# Altium footprint library 28Pins_Project_V111.PcbLib: 28 footprints (part 1 of 2)
Each footprint in its own frame and in the unit in brackets; x right, y up, seen from the top. Pads: shape width x height; smd on the part's side, far side on the other; paste and mask are expansions set on the pad; w line width, h text height; cw(c..) or ccw(c..) is an arc to the next point about the centre after c.
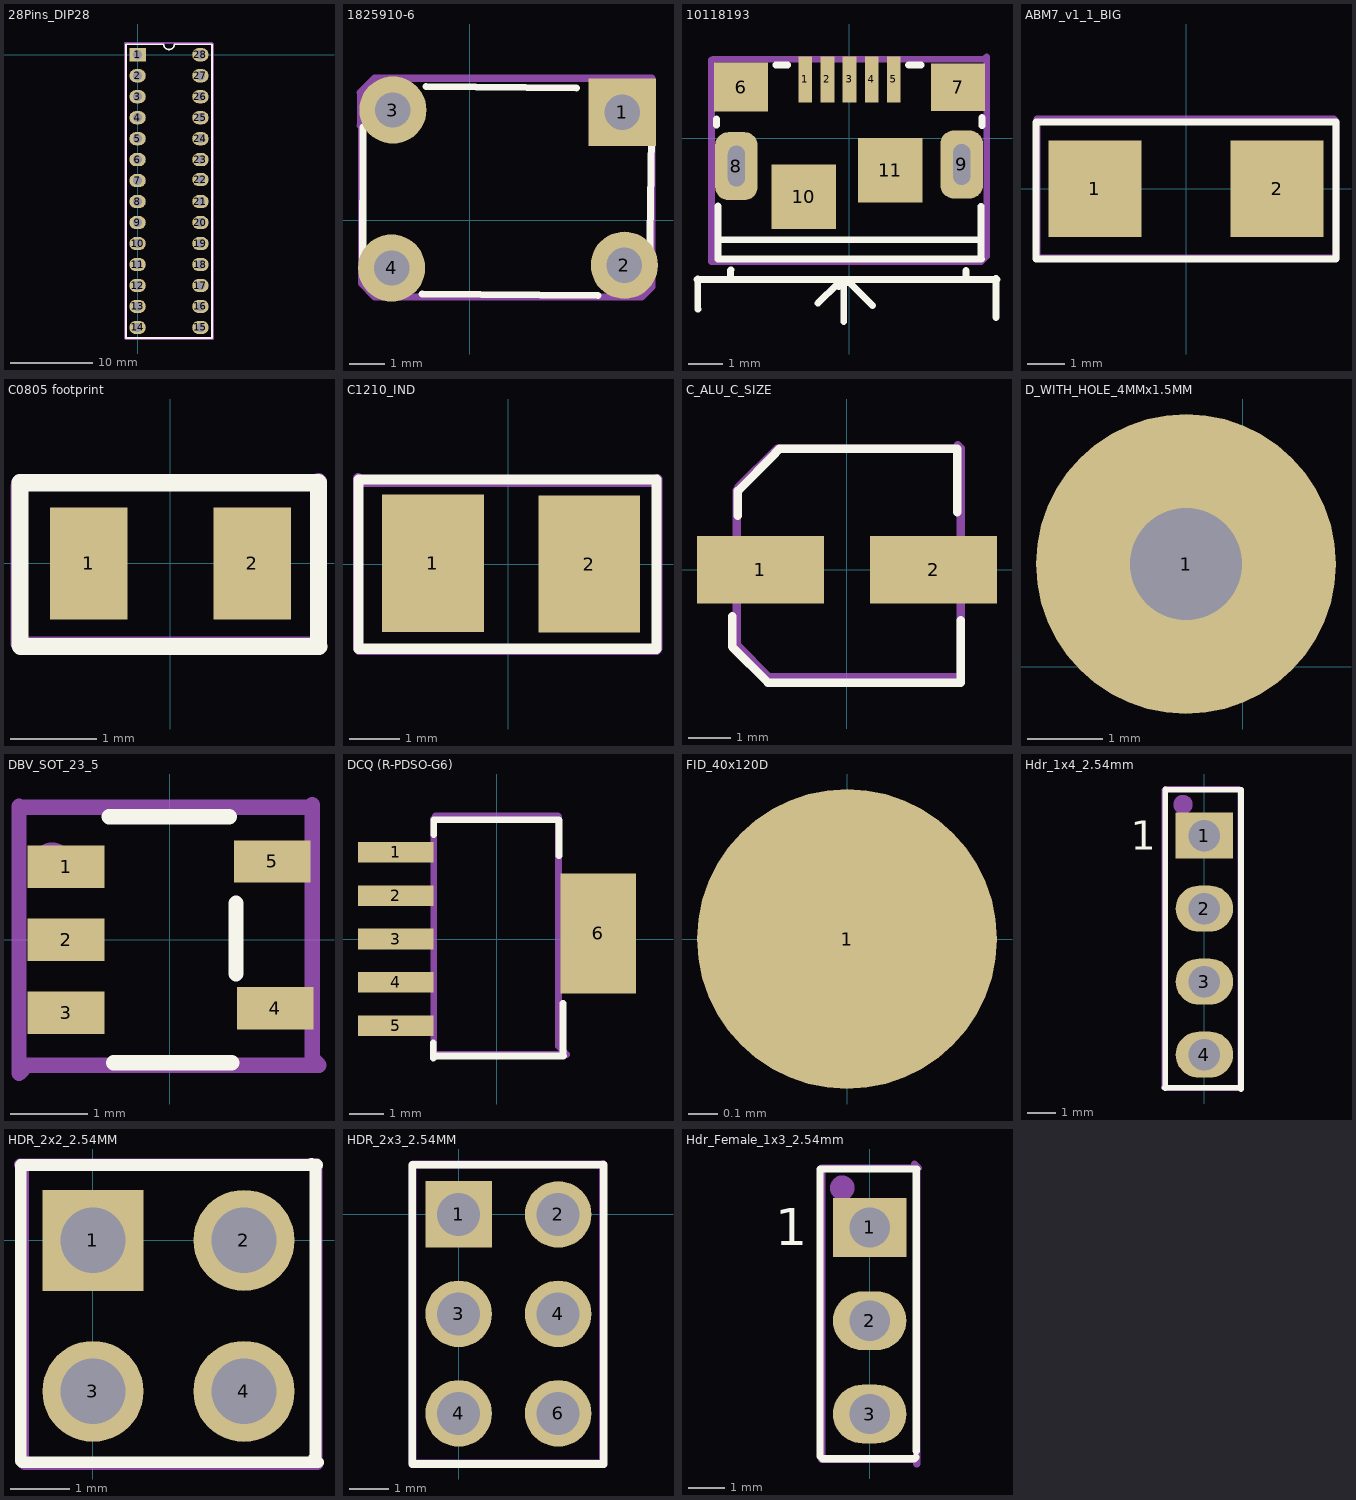
[diagram p0: the footprints below, top view; thin cyan lines are the x and y axes]

## 28_DIP_7.62mm_SOCKET [mm]
3D body "dil_socket.stp": height 4.2, standoff -3.17, extent -0.06,-35.419 10.04,0.081

## 28Pins_DIP28 [mm]
pads (28):
  rect 2x1.6 hole 1.1: 1(0,0)
  oval 2x1.6 hole 1.1: 2(0,-2.54) 3(0,-5.08) 4(0,-7.62) 5(0,-10.16) 6(0,-12.7) 7(0,-15.24) 8(0,-17.78) 9(0,-20.32) 10(0,-22.86) 11(0,-25.4) 12(0,-27.94) 13(0,-30.48) 14(0,-33.02) 15(7.62,-33.02) 16(7.62,-30.48) 17(7.62,-27.94) 18(7.62,-25.4) 19(7.62,-22.86) 20(7.62,-20.32) 21(7.62,-17.78) 22(7.62,-15.113) 23(7.62,-12.7) 24(7.62,-10.16) 25(7.62,-7.62) 26(7.62,-5.08) 27(7.62,-2.54) 28(7.62,0)
Top Overlay:
  lines w0.2: -1.397,-34.29 -1.397,1.27 3.175,1.27 ccw(c3.81,1.27) 4.445,1.27 9.017,1.27 9.017,-34.29 -1.397,-34.29
Mechanical 29:
  circle w0.5: c0,0 r0.359
  lines w0.254: -1.524,-34.29 -1.524,1.397 4.572,1.397 9.017,1.397 9.144,1.27 9.144,0.508 9.144,-3.683 9.144,-21.209 9.144,-34.417 -1.397,-34.417 -1.524,-34.29
  text ".Designator" at 4.699,-17.78 h1.52
3D body "User Library-28 pin dip-2.step": height 7.55, standoff 1.33, extent -0.127,-34.735 7.747,1.207

## 1825910-6 [mm]
pads (4):
  rect 1.9x1.9 hole 1: 1(4.311,3.047)
  round 1.9 hole 1: 2(4.37,-1.276) 3(-2.173,3.111) 4(-2.21,-1.352)
Top Overlay:
  lines w0.2: -3.025,-1.471 -3.018,2.628 ; -1.343,-2.088 3.628,-2.137 ; -1.237,3.781 3.013,3.738 ; 5.076,-1.437 5.137,2.39
Mechanical 29:
  lines w0.2: -3.095,2.67 -3.088,2.678 -3.088,3.581 ; -3.095,3.603 -2.688,4.01 5.147,4.01 ; -3.065,2.753 -3.065,-1.793 -2.689,-2.17 4.861,-2.17 5.147,-1.884 5.147,4.01 ; 5.147,4.01 5.147,4.01
3D body "User Library-FSM4JLH(1825910-5).step": height 5, standoff -3.51, extent -2.78,-2.144 5.019,3.846

## 10118193 [mm]
pads (11):
  rect 0.4x1.35 smd: 1(-1.287,1.731) 2(-0.637,1.731) 3(0.013,1.731) 4(0.663,1.731) 5(1.313,1.731)
  rect 1.6x1.45 smd: 6(-3.187,1.506)
  rect 1.6x1.4 smd: 7(3.213,1.506)
  rrect60% 1.25x2 hole 0.5 slot 1.2 at 90 deg: 8(-3.322,-0.823) 9(3.322,-0.777)
  rect 1.9x1.9 smd: 10(-1.341,-1.731) 11(1.213,-0.944)
Top Overlay:
  lines w0.2: -4.485,-4.171 4.363,-4.171 4.35,-4.184 ; -4.466,-4.152 -4.466,-5.038 -4.46,-5.044 ; -3.909,0.382 -3.909,0.564 ; -3.864,-2.003 -3.864,-3.573 -3.854,-3.564 3.906,-3.564 3.859,-3.517 ; -3.767,-2.993 3.835,-2.993 3.829,-3 ; -3.498,-4.063 -3.498,-3.899 -3.479,-3.88 ; -2.164,2.158 -1.808,2.158 ; -0.916,-4.867 -0.346,-4.298 -0.314,-4.298 ; -0.302,-4.374 -0.302,-4.298 ; -0.156,-5.405 -0.156,-4.272 ; -0.124,-4.266 0.021,-4.266 0.692,-4.937 ; 1.752,2.158 2.128,2.158 ; 3.445,-4.12 3.445,-3.905 ; 3.892,-3.48 3.892,-2.007 ; 3.919,0.367 3.919,0.609 ; 4.337,-5.291 4.337,-4.133
Mechanical 29:
  lines w0.2: -4.055,2.303 -4.055,-3.646 ; -3.998,2.329 3.989,2.329 4.059,2.398 4.059,-3.481 3.894,-3.646 -4.055,-3.646 ; -4.055,-3.646 -4.055,-3.646
  text ".Des" at -1.244,-0.816 h1.52
3D body "10118193-0001lfc.stp": height 2.88, standoff -0.92, extent -3.916,-3.613 3.941,2.17

## ABM7_v1_1_BIG [mm]
pads (2):
  rect 2.5x2.6 smd: 1(-2.45,0) 2(2.45,0)
Top Overlay:
  lines w0.2: -4.035,-1.89 -4.035,1.794 4.034,1.794 4.034,-1.89 -4.035,-1.89
Mechanical 1:
  lines w0.2: -4.017,1.776 -4.017,-1.854 -4.008,-1.863 4.025,-1.863 4.034,-1.854 4.034,1.812 3.971,1.875 -4.008,1.875
  text ".Designator" at -6.854,-1.149 h1.52
3D body "ABM7.STEP": height 1.41, standoff 0.01, extent -2.992,-1.783 3.002,1.722

## C0805 footprint [mm]
pads (2):
  rect 0.9x1.3 smd: 1(-0.95,0) 2(0.95,0)
Top Overlay:
  lines w0.2: -1.749,-0.95 -1.749,0.937 1.724,0.937 1.724,-0.95 ; -1.744,-0.965 1.729,-0.965
Mechanical 29:
  lines w0.2: -1.762,0.895 -1.762,-0.932 -1.745,-0.95 1.703,-0.95 1.722,-0.93 1.722,0.951 1.711,0.94 -1.749,0.94
  text ".Designator" at -1.243,-0.033 h0.25
3D body "CAPC2012X145N EIA 0805.step": height 1.21, standoff 0.01, extent -0.951,-0.724 1.049,0.726

## C1210_IND [mm]
pads (2):
  rect 2x2.7 smd: 1(-1.479,0.017) 2(1.6,0)
Top Overlay:
  lines w0.2: -2.948,-1.664 2.923,-1.664 2.923,1.666 -2.948,1.666 -2.948,-1.664
Mechanical 29:
  lines w0.2: -2.955,1.691 -2.955,-1.662 -2.933,-1.685 2.922,-1.685 2.943,-1.663 2.943,1.675 2.885,1.617 -2.897,1.617
  text ".Des" at -1.064,-0.233 h1.52
3D body: height 2.7, standoff -0.01, extent -2.095,-1.021 -1.347,0.915
3D body: height 2.7, standoff -0.01, extent 1.257,-1.008 2.005,0.929
3D body: height 2.7, standoff -0.01, extent -2.107,-1.04 2.03,0.922

## C_ALU_C_SIZE [mm]
pads (2):
  rect 3x1.6 smd: 1(-2.05,0) 2(2.05,0)
Top Overlay:
  lines w0.2: -2.716,-1.102 -2.716,-1.826 -1.87,-2.672 2.687,-2.672 2.687,-1.201 ; -2.58,1.272 -2.58,1.865 -1.702,2.743 -1.716,2.743 -1.602,2.857 2.611,2.857 2.611,1.354
Mechanical 29:
  lines w0.2: -2.607,1.881 -2.607,-1.786 -1.843,-2.55 2.684,-2.55 2.69,-2.544 2.69,2.87 2.62,2.94 ; -2.576,1.846 -2.576,1.939 -1.656,2.86 2.616,2.86
  text ".Des" at -0.274,-0.248 h1.52
3D body "User Library-capacitor size C.step": height 5.41, standoff -0.01, extent -3.018,-2.567 2.882,2.732

## D_WITH_HOLE_4MMx1.5MM [mm]
pads (1):
  round 4 hole 1.5: 1(-0.758,1.369)

## DBV_SOT_23_5 [mm]
pads (5):
  rect 1x0.55 smd: 1(-1.35,0.95) 2(-1.35,0) 3(-1.35,-0.95) 4(1.373,-0.889) 5(1.334,1.021)
Top Overlay:
  lines w0.2: -0.793,1.6 0.771,1.6 ; -0.734,-1.599 0.805,-1.599 ; 0.861,-0.444 0.861,0.476
Mechanical 29:
  circle w0.5: c-1.533,0.973 r0.042
  lines w0.2: -1.964,1.741 -1.964,-1.738 -1.859,-1.632 1.942,-1.632 1.855,-1.545 1.855,1.759 1.821,1.725 -1.948,1.725
3D body "User Library-TPS79333DBVR.step": height 1.46, standoff -0.16, extent -1.504,-1.473 1.523,1.577

## DCQ (R-PDSO-G6) [mm]
pads (6):
  rect 2.2x0.6 smd: 1(-2.96,2.54) 2(-2.96,1.27) 3(-2.96,0) 4(-2.96,-1.27) 5(-2.96,-2.54)
  rect 2.2x3.5 smd: 6(2.956,0.164)
Top Overlay:
  lines w0.2: -1.861,-3.036 -1.861,-3.477 -1.806,-3.422 1.947,-3.422 1.931,-3.407 1.931,-1.877 ; -1.845,3.057 -1.845,3.483 ; 1.813,2.434 1.813,3.475 ; 1.813,3.436 1.765,3.483 -1.845,3.483 ; -1.845,3.483 -1.845,3.483
Mechanical 29:
  lines w0.2: -1.848,3.528 -1.848,-3.393 -1.833,-3.377 2.038,-3.377 1.793,-3.132 1.793,3.583 1.785,3.591 -1.793,3.591
  text ".Des" at -0.995,-2.122 h1.52
3D body "User Library-TPS73701DCQ.step": height 1.79, standoff -0.01, extent -3.757,-3.275 3.503,3.275

## FID_40x120D [mil]
pads (1):
  round 40 smd paste-40 mask+40: 1(0,0)

## Hdr_1x4_2.54mm [mm]
pads (4):
  rect 2x1.6 hole 1.1: 1(0,12.7)
  oval 2x1.6 hole 1.1: 2(0,10.16) 3(0,7.62) 4(0,5.08)
Top Overlay:
  lines w0.2: -1.387,3.929 1.177,3.929 ; -1.364,3.923 -1.364,14.308 ; -1.315,14.292 1.284,14.292 ; 1.27,3.885 1.27,14.287
  text "1" at -2.564,12.212 h1
Mechanical 29:
  circle w0.5: c-0.744,13.778 r0.085
  lines w0.2: -1.385,14.281 -1.385,3.985 -1.313,3.913 1.227,3.913 1.251,3.937 1.251,14.264 1.195,14.321 -1.337,14.321
  text ".Des" at 0.685,5.776 h1.52
3D body "HDR_1x4_White.stp": height 5.47, standoff -6.03, extent -1.219,4.176 1.191,13.936

## HDR_2x2_2.54MM [mm]
pads (4):
  rect 1.7x1.7 hole 1.1: 1(0,0)
  round 1.7 hole 1.1: 2(2.54,0) 3(0,-2.54) 4(2.54,-2.54)
Top Overlay:
  lines w0.2: -1.215,1.269 -1.215,-3.709 -1.192,-3.732 3.783,-3.732 3.717,-3.666 ; -1.185,1.27 3.772,1.27 ; 3.675,1.285 3.741,1.219 3.741,-3.63
Mechanical 29:
  lines w0.2: -1.226,1.278 3.752,1.278 3.758,1.285 3.758,-3.742 3.777,-3.761 -1.151,-3.761 -1.176,-3.736 -1.176,1.242
  text ".Des" at 2.065,-3.672 h1.52
3D body "961204-6404-XX.stp": height 7.5, standoff -3.8, extent -1.29,-3.704 3.79,1.296

## HDR_2x3_2.54MM [mm]
pads (6):
  rect 1.7x1.7 hole 1.1: 1(0,0)
  round 1.7 hole 1.1: 2(2.54,0) 3(0,-2.54) 4(0,-5.08) 4(2.54,-2.54) 6(2.54,-5.08)
Top Overlay:
  lines w0.2: -1.185,-6.372 -1.185,1.27 3.702,1.27 3.702,-6.372 -1.185,-6.372
Mechanical 29:
  lines w0.2: -1.179,1.238 -1.179,-6.333 -1.161,-6.351 3.658,-6.351 3.682,-6.327 3.682,1.287 3.67,1.275 -1.161,1.275
  text ".Designator" at 2.05,-11.627 h1.52
3D body "User Library-Header3x2_100_TH.STEP": height 8.15, standoff -2.83, extent -1.297,-6.399 3.783,1.221

## Hdr_Female_1x3_2.54mm [mm]
pads (3):
  rect 2x1.6 hole 1.1: 1(0,12.7)
  oval 2x1.6 hole 1.1: 2(0,10.16) 3(0,7.62)
Top Overlay:
  lines w0.2: -1.35,6.474 -1.35,14.292 1.284,14.292 ; -1.274,6.401 1.219,6.401 1.261,6.443 ; 1.27,6.612 1.27,14.287
  text "1" at -2.564,12.212 h1
Mechanical 29:
  circle w0.5: c-0.744,13.778 r0.085
  lines w0.2: -1.304,6.398 -1.304,14.321 1.332,14.321 1.223,14.429 ; -1.303,6.383 1.214,6.383 ; 1.281,6.259 1.281,14.252
  text ".Des" at 0.828,7.39 h1.52
3D body "HDR_1x3_White.stp": height 5.47, standoff -6.03, extent -1.208,6.623 1.202,13.843